# EAGLE library part WAVESHARE_RP2040_ZERO (library Waveshare_RP2040_zero)
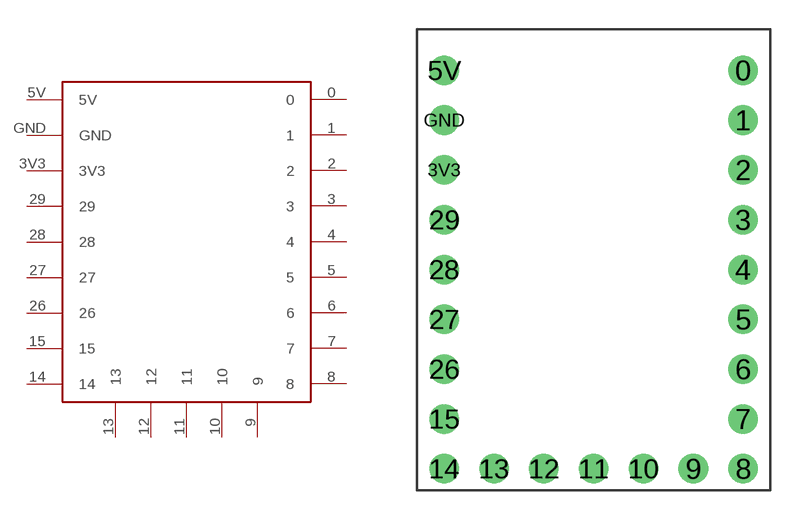
[diagram p0: symbol with the pads of WAVESHARE-RP2040-ZERO; footprint WAVESHARE-RP2040-ZERO]

Designator prefix RP2040_ZERO

## WAVESHARE_RP2040_ZERO  [WAVESHARE-RP2040-ZERO]
0  0
1  1
2  2
3  3
3V3  3V3
4  4
5  5
5V  5V
6  6
7  7
8  8
9  9
10  10
11  11
12  12
13  13
14  14
15  15
26  26
27  27
28  28
29  29
GND  GND

## Footprint WAVESHARE-RP2040-ZERO (pad centres in mm)
drill 1: 0 16.62,21.41; 1 16.62,18.87; 2 16.62,16.33; 3 16.62,13.79; 3V3 1.38,16.33; 4 16.62,11.25; 5 16.62,8.71; 5V 1.38,21.41; 6 16.62,6.17; 7 16.62,3.63; 8 16.62,1.09; 9 14.08,1.09; 10 11.54,1.09; 11 9,1.09; 12 6.46,1.09; 13 3.92,1.09; 14 1.38,1.09; 15 1.38,3.63; 26 1.38,6.17; 27 1.38,8.71; 28 1.38,11.25; 29 1.38,13.79; GND 1.38,18.87